# EAGLE library part JENNIC_JN51XX (library jnode)
JN5139-xxx-M00xxx, Farnell: 1500175
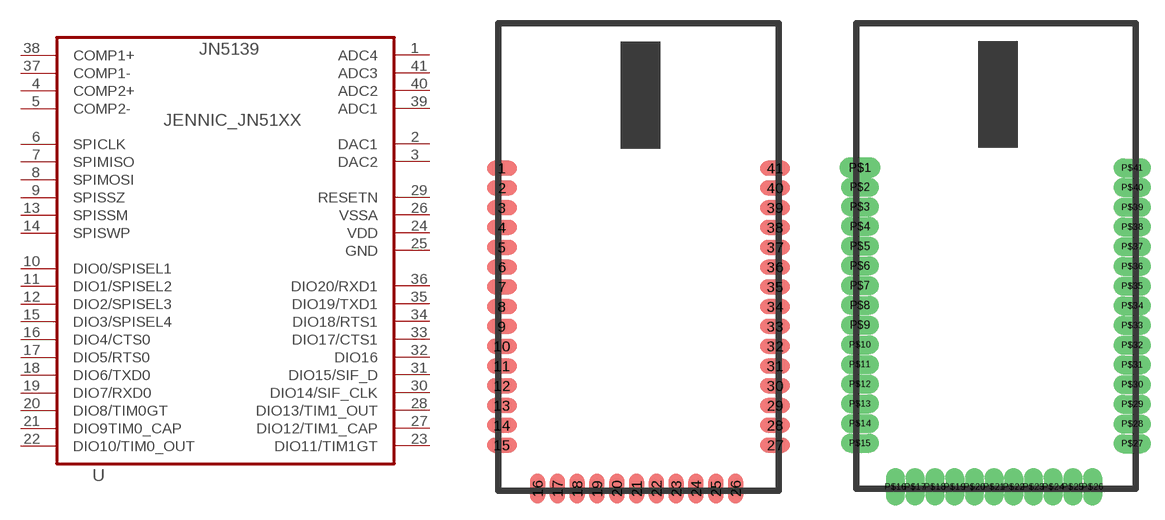
[diagram p2: symbol with the pads of JN5139_SMD; footprints JN5139_SMD, JN5139_TH]

Designator prefix -

## JENNIC_JN51XX  [JN5139_SMD]
1  ADC4
2  DAC1
3  DAC2
4  COMP2+
5  COMP2-
6  SPICLK
7  SPIMISO
8  SPIMOSI
9  SPISSZ
10  DIO0/SPISEL1
11  DIO1/SPISEL2
12  DIO2/SPISEL3
13  SPISSM
14  SPISWP
15  DIO3/SPISEL4
16  DIO4/CTS0
17  DIO5/RTS0
18  DIO6/TXD0
19  DIO7/RXD0
20  DIO8/TIM0GT
21  DIO9TIM0_CAP
22  DIO10/TIM0_OUT
23  DIO11/TIM1GT
24  VDD
25  GND
26  VSSA
27  DIO12/TIM1_CAP
28  DIO13/TIM1_OUT
29  RESETN
30  DIO14/SIF_CLK
31  DIO15/SIF_D
32  DIO16
33  DIO17/CTS1
34  DIO18/RTS1
35  DIO19/TXD1
36  DIO20/RXD1
37  COMP1-
38  COMP1+
39  ADC1
40  ADC2
41  ADC3

## JENNIC_JN51XXTH  [JN5139_TH]
P$1  ADC4
P$2  DAC1
P$3  DAC2
P$4  COMP2+
P$5  COMP2-
P$6  SPICLK
P$7  SPIMISO
P$8  SPIMOSI
P$9  SPISSZ
P$10  DIO0/SPISEL1
P$11  DIO1/SPISEL2
P$12  DIO2/SPISEL3
P$13  SPISSM
P$14  SPISWP
P$15  DIO3/SPISEL4
P$16  DIO4/CTS0
P$17  DIO5/RTS0
P$18  DIO6/TXD0
P$19  DIO7/RXD0
P$20  DIO8/TIM0GT
P$21  DIO9TIM0_CAP
P$22  DIO10/TIM0_OUT
P$23  DIO11/TIM1GT
P$24  VDD
P$25  GND
P$26  VSSA
P$27  DIO12/TIM1_CAP
P$28  DIO13/TIM1_OUT
P$29  RESETN
P$30  DIO14/SIF_CLK
P$31  DIO15/SIF_D
P$32  DIO16
P$33  DIO17/CTS1
P$34  DIO18/RTS1
P$35  DIO19/TXD1
P$36  DIO20/RXD1
P$37  COMP1-
P$38  COMP1+
P$39  ADC1
P$40  ADC2
P$41  ADC3

## JENNIC_JN51XXSMDTH  [JN5148_SMDTH]
Pads as for JN5139_TH

## Footprint JN5139_SMD (pad centres in mm)
smd 1.93 x 0.965: 1 0,0; 2 0,-1.27; 3 0,-2.54; 4 0,-3.81; 5 0,-5.08; 6 0,-6.35; 7 0,-7.62; 8 0,-8.89; 9 0,-10.16; 10 0,-11.43; 11 0,-12.7; 12 0,-13.97; 13 0,-15.24; 14 0,-16.51; 15 0,-17.78; 27 17.526,-17.78; 28 17.526,-16.51; 29 17.526,-15.24; 30 17.526,-13.97; 31 17.526,-12.7; 32 17.526,-11.43; 33 17.526,-10.16; 34 17.526,-8.89; 35 17.526,-7.62; 36 17.526,-6.35; 37 17.526,-5.08; 38 17.526,-3.81; 39 17.526,-2.54; 40 17.526,-1.27; 41 17.526,0
smd 0.965 x 1.93: 16 2.286,-20.574; 17 3.556,-20.574; 18 4.826,-20.574; 19 6.096,-20.574; 20 7.366,-20.574; 21 8.636,-20.574; 22 9.906,-20.574; 23 11.176,-20.574; 24 12.446,-20.574; 25 13.716,-20.574; 26 14.986,-20.574

## Footprint JN5139_TH (pad centres in mm)
drill 0.8 pad 1.016 long: P$1 0,1.27
drill 0.7 pad 1.016 long: P$2 0,0; P$3 0,-1.27; P$4 0,-2.54; P$5 0,-3.81; P$6 0,-5.08; P$7 0,-6.35; P$8 0,-7.62; P$9 0,-8.89; P$10 0,-10.16; P$11 0,-11.43; P$12 0,-12.7; P$13 0,-13.97; P$14 0,-15.24; P$15 0,-16.51; P$16 2.286,-19.326; P$17 3.556,-19.326; P$18 4.826,-19.326; P$19 6.096,-19.326; P$20 7.366,-19.326; P$21 8.636,-19.326; P$22 9.906,-19.326; P$23 11.176,-19.326; P$24 12.446,-19.326; P$25 13.716,-19.326; P$26 14.986,-19.326; P$27 17.544,-16.536; P$28 17.544,-15.266; P$29 17.544,-13.996; P$30 17.544,-12.726; P$31 17.544,-11.456; P$32 17.544,-10.186; P$33 17.544,-8.916; P$34 17.544,-7.646; P$35 17.544,-6.376; P$36 17.544,-5.106; P$37 17.544,-3.836; P$38 17.544,-2.566; P$39 17.544,-1.296; P$40 17.544,-0.026; P$41 17.544,1.244

## Footprint JN5148_SMDTH (pad centres in mm)
drill 0.7 pad 1.016 long: P$1 -2.29,20.6; P$2 -2.29,19.33; P$3 -2.29,18.06; P$4 -2.29,16.79; P$5 -2.29,15.52; P$6 -2.29,14.25; P$7 -2.29,12.98; P$8 -2.29,11.71; P$9 -2.29,10.44; P$10 -2.29,9.17; P$11 -2.29,7.9; P$12 -2.29,6.63; P$13 -2.29,5.36; P$14 -2.29,4.09; P$15 -2.29,2.82; P$27 15.254,2.794; P$28 15.254,4.064; P$29 15.254,5.334; P$30 15.254,6.604; P$31 15.254,7.874; P$32 15.254,9.144; P$33 15.254,10.414; P$34 15.254,11.684; P$35 15.254,12.954; P$36 15.254,14.224; P$37 15.254,15.494; P$38 15.254,16.764; P$39 15.254,18.034; P$40 15.254,19.304; P$41 15.254,20.574
smd 1 x 2: P$16 0,0; P$17 1.27,0; P$18 2.54,0; P$19 3.81,0; P$20 5.08,0; P$21 6.35,0; P$22 7.62,0; P$23 8.89,0; P$24 10.16,0; P$25 11.43,0; P$26 12.7,0